# EAGLE library part 615008149521L (library Wurth_Connectors_WR-MJ)
WR-MJ Modular Jack Horizontal Plastic 8P8C Assembly Tab Up KIND PROPERTIES Quality Class:500 Mating cycles General Information Operating Temperature:-40 up to +85 °C Compliance: RoHS Electrical Properties IR 1:1.5A Working Voltage:120V (AC) Withstanding Voltage:1000V (AC) Contact Resistance:20mΩ RISO:500 MΩ Material Properties Insulator MateriaL:PBT Insulator Flammability Rating:UL94 V-0 Color:Black Contact Material Copper Alloy Contact Plating:Gold Contact Type:Stamped Shielding Material:Brass Shielding Plating:Nickel Packaging Properties Packaging:Tray <https://www.we-online.com/catalog/media/o64597v209%20Family_Con_WR-MJ_Horizontal_Plastic_6150xx149521_pf2.jpg> Details see: https://www.we-online.com/catalog/en/MJ_HORIZONTAL_PLASTIC_ASSEMBLY_8P8C_TAB_UP/? Updated by Yingchun,Shan 2020-01-06 2020 (C) Würth Elektronik
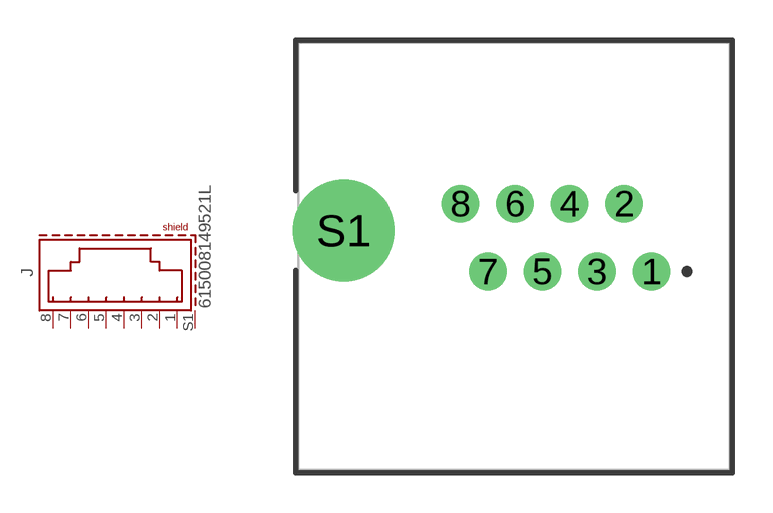
[diagram p62: symbol with the pads of 615008149521L; footprint 615008149521L]

Designator prefix J

## 615008149521L (DATASHEET-URL: https://www.we-online.com/redexpert/spec/615008149521L?ae; MOUNT: THT; PART-NUMBER: 615008149521L; TYPE: Horizontal; VALUE: 615008149521L; XPXC: 8P8C)  [615008149521L]
1  1  pas
2  2  pas
3  3  pas
4  4  pas
5  5  pas
6  6  pas
7  7  pas
8  8  pas
S1  SHIELD  pas

## Footprint 615008149521L (pad centres in mm)
WR-MJ Modular Jack Horizontal Plastic 8P8C Assembly Tab Up
drill 0.9: 1 3.57,-1.54; 2 2.55,1; 3 1.53,-1.54; 4 0.51,1; 5 -0.51,-1.54; 6 -1.53,1; 7 -2.55,-1.54; 8 -3.57,1
drill 2.8: S1 -7.95,0